# EAGLE library part CY8C21223 (library CY8C4125AXI)
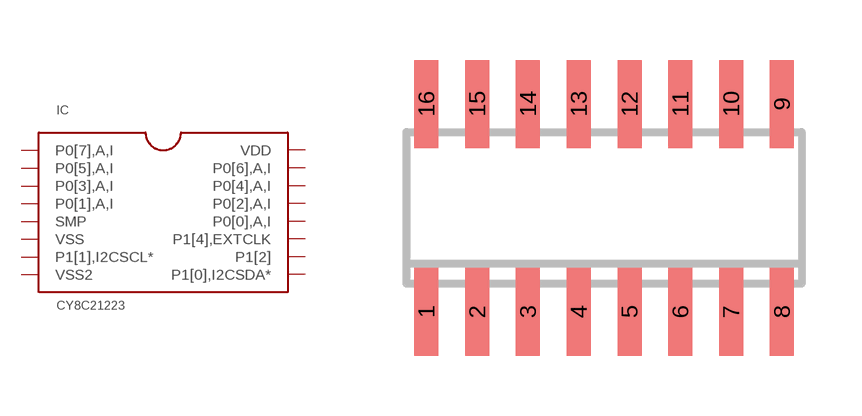
[diagram p19: symbol with the pads of SO16; footprint SO16]

Designator prefix IC

## CY8C21223_SO16  [SO16]
1  P0[7],A,I
2  P0[5],A,I
3  P0[3],A,I
4  P0[1],A,I
5  SMP  pwr
6  VSS  pwr
7  P1[1],I2CSCL*
8  VSS2  pwr
9  P1[0],I2CSDA*
10  P1[2]
11  P1[4],EXTCLK
12  P0[0],A,I
13  P0[2],A,I
14  P0[4],A,I
15  P0[6],A,I
16  VDD  pwr

## Footprint SO16 (pad centres in mm)
SMALL OUTLINE INTEGRATED CIRCUIT body 3.9 mm/JEDEC MS-012AC
smd 0.6 x 2.2: 1 -4.445,-2.6; 2 -3.175,-2.6; 3 -1.905,-2.6; 4 -0.635,-2.6; 5 0.635,-2.6; 6 1.905,-2.6; 7 3.175,-2.6; 8 4.445,-2.6; 9 4.445,2.6; 10 3.175,2.6; 11 1.905,2.6; 12 0.635,2.6; 13 -0.635,2.6; 14 -1.905,2.6; 15 -3.175,2.6; 16 -4.445,2.6